# Altium footprint library rcl_PTH.PCBLIB: 348 footprints (part 16 of 22)
Each footprint in its own frame and in the unit in brackets; x right, y up, seen from the top. Pads: shape width x height; smd on the part's side, far side on the other; paste and mask are expansions set on the pad; w line width, h text height; cw(c..) or ccw(c..) is an arc to the next point about the centre after c.
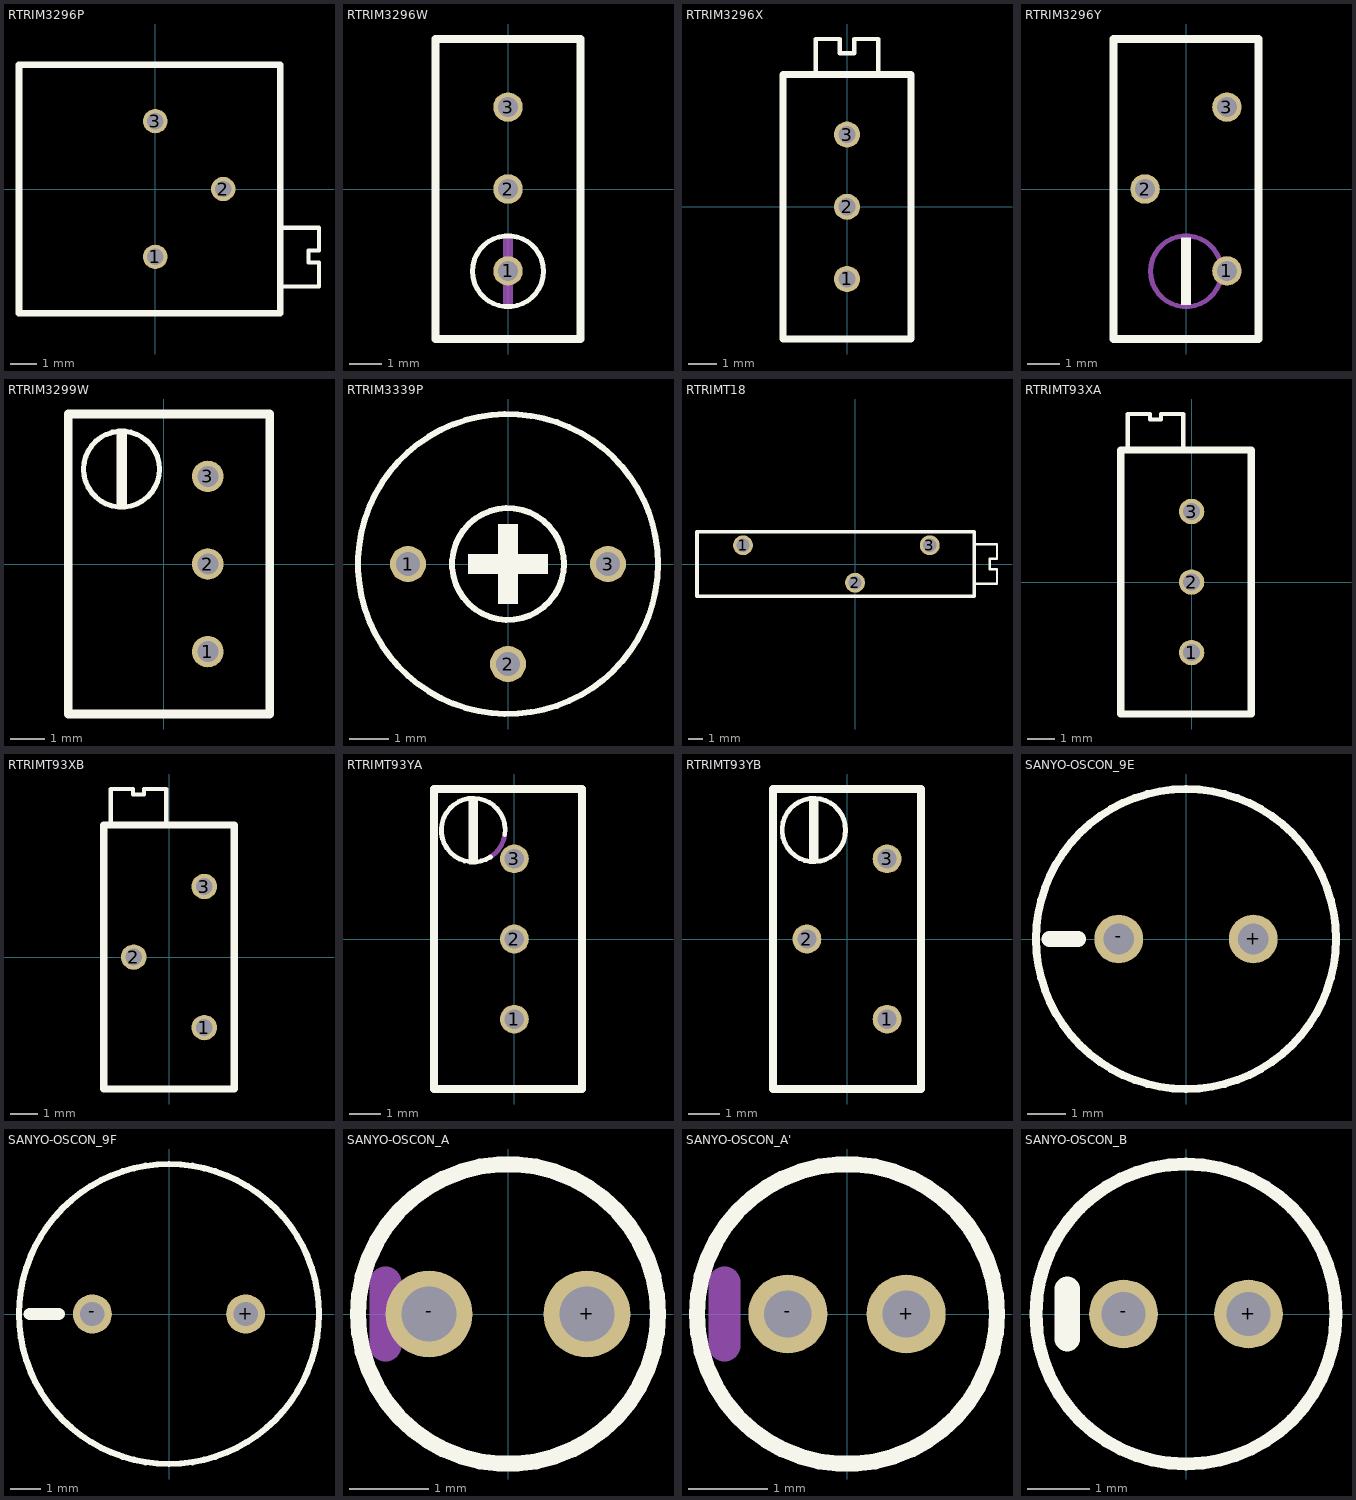
[diagram p15: the footprints below, top view; thin cyan lines are the x and y axes]

## RTRIM3296P [mil]
pads (3):
  round 36 hole 24: 1(0,-100) 2(100,0) 3(0,100)
Top Overlay:
  lines w6: 187.99,-143.7 241.14,-143.7 241.14,-108.27 225.39,-108.27 225.39,-90.55 241.14,-90.55 241.14,-57.09 187.99,-57.09
  lines w10: -200.79,-183.07 184.06,-183.07 184.06,183.07 -200.79,183.07 -200.79,-183.07

## RTRIM3296W [mil]
pads (3):
  round 36 hole 24: 1(0,-100) 2(0,0) 3(0,100)
Top Overlay:
  circle w6: c0,-100.39 r43.35
  lines w10: -88.58,-183.07 88.58,-183.07 88.58,183.07 -88.58,183.07 -88.58,-183.07
Mechanical 16:
  rectangle: -5.91,-141.73 5.91,-59.06

## RTRIM3296X [mil]
pads (3):
  round 36 hole 24: 1(0,-100) 2(0,0) 3(0,100)
Top Overlay:
  lines w6: -43.31,185.04 -43.31,232.28 -9.84,232.28 -9.84,212.6 9.84,212.6 9.84,232.28 43.31,232.28 43.31,185.04
  lines w10: -88.58,-183.07 -88.58,183.07 88.58,183.07 88.58,-183.07 -88.58,-183.07

## RTRIM3296Y [mil]
pads (3):
  round 36 hole 24: 1(50,-100) 2(-50,0) 3(50,100)
Top Overlay:
  rectangle: -5.91,-141.73 5.91,-59.06
  lines w10: -88.58,-183.07 -88.58,183.07 88.58,183.07 88.58,-183.07 -88.58,-183.07
Mechanical 16:
  circle w6: c0,-100.39 r43.35

## RTRIM3299W [mil]
pads (3):
  round 36 hole 24: 1(50,-100) 2(50,0) 3(50,100)
Top Overlay:
  circle w6: c-48.43,108.27 r43.35
  rectangle: -54.33,66.93 -42.52,149.61
  lines w10: -109.45,-171.26 -109.45,171.26 120.87,171.26 120.87,-171.26 -109.45,-171.26

## RTRIM3339P [mil]
pads (3):
  round 36 hole 24: 1(-100,0) 2(0,-100) 3(100,0)
Top Overlay:
  circle w6: c0,0 r55.9
  circle w6: c0,0 r150
  rectangle: -10,-40 10,40
  rectangle: -40,-10 40,10

## RTRIMT18 [mil]
pads (3):
  round 53.15 hole 35.43: 1(-300,50) 2(0,-50) 3(200,50)
Top Overlay:
  lines w6: 322.83,-53.15 379.92,-53.15 379.92,-13.78 360.24,-13.78 360.24,13.78 379.92,13.78 379.92,53.15 322.83,53.15
  lines w10: -423.23,-86.61 318.9,-86.61 318.9,86.61 -423.23,86.61 -423.23,-86.61

## RTRIMT93XA [mil]
pads (3):
  round 36 hole 24: 1(0,-100) 2(0,0) 3(0,100)
Top Overlay:
  lines w6: -90.55,192.91 -90.55,238.19 -59.06,238.19 -59.06,230.32 -43.31,230.32 -43.31,238.19 -11.81,238.19 -11.81,192.91
  lines w10: -100.39,-187.01 84.65,-187.01 84.65,187.01 -100.39,187.01 -100.39,-187.01

## RTRIMT93XB [mil]
pads (3):
  round 36 hole 24: 1(50,-100) 2(-50,0) 3(50,100)
Top Overlay:
  lines w6: -82.68,192.91 -82.68,238.19 -51.18,238.19 -51.18,230.32 -35.43,230.32 -35.43,238.19 -3.94,238.19 -3.94,192.91
  lines w10: -92.52,-187.01 92.52,-187.01 92.52,187.01 -92.52,187.01 -92.52,-187.01

## RTRIMT93YA [mil]
pads (3):
  round 36 hole 24: 1(0,-100) 2(0,0) 3(0,100)
Top Overlay:
  rectangle: -57.09,98.43 -45.28,173.23
  lines w6: -29.53,102.36 cw(c-51.18,135.76) -11.81,129.92
  lines w10: -100.39,-187.01 84.65,-187.01 84.65,187.01 -100.39,187.01 -100.39,-187.01
Mechanical 16:
  lines w6: -29.53,102.36 ccw(c-51.18,135.76) -11.81,129.92

## RTRIMT93YB [mil]
pads (3):
  round 36 hole 24: 1(50,-100) 2(-50,0) 3(50,100)
Top Overlay:
  circle w6: c-41.34,135.83 r39.56
  rectangle: -47.24,98.43 -35.43,173.23
  lines w10: -92.52,-187.01 -92.52,187.01 92.52,187.01 92.52,-187.01 -92.52,-187.01

## SANYO-OSCON_9E [mil]
pads (2):
  round 50 hole 31.5: +(68.9,0) -(-68.9,0)
Top Overlay:
  circle w8: c0,0 r153.54
  lines w16: -139.76,0 -110.24,0

## SANYO-OSCON_9F [mil]
pads (2):
  round 50 hole 31.5: +(98.43,0) -(-98.43,0)
Top Overlay:
  circle w8: c0,0 r192.91
  lines w16: -179.13,0 -141.73,0

## SANYO-OSCON_A [mm]
pads (2):
  round 1.1 hole 0.7: +(1,0) -(-1,0)
Top Overlay:
  circle w0.203: c0,0 r1.9
Mechanical 16:
  lines w0.406: -1.55,-0.4 -1.55,0.4

## SANYO-OSCON_A' [mm]
pads (2):
  round 1 hole 0.6: +(0.75,0) -(-0.75,0)
Top Overlay:
  circle w0.203: c0,0 r1.9
Mechanical 16:
  lines w0.406: -1.55,-0.4 -1.55,0.4

## SANYO-OSCON_B [mm]
pads (2):
  round 1.1 hole 0.7: +(1,0) -(-1,0)
Top Overlay:
  circle w0.203: c0,0 r2.4
  lines w0.406: -1.9,-0.4 -1.9,0.4